# Altium integrated library Linear Technology Power Management Switching Regulator LTC1174-LTC3901.IntLib: 2647 symbols (part 263 of 364)
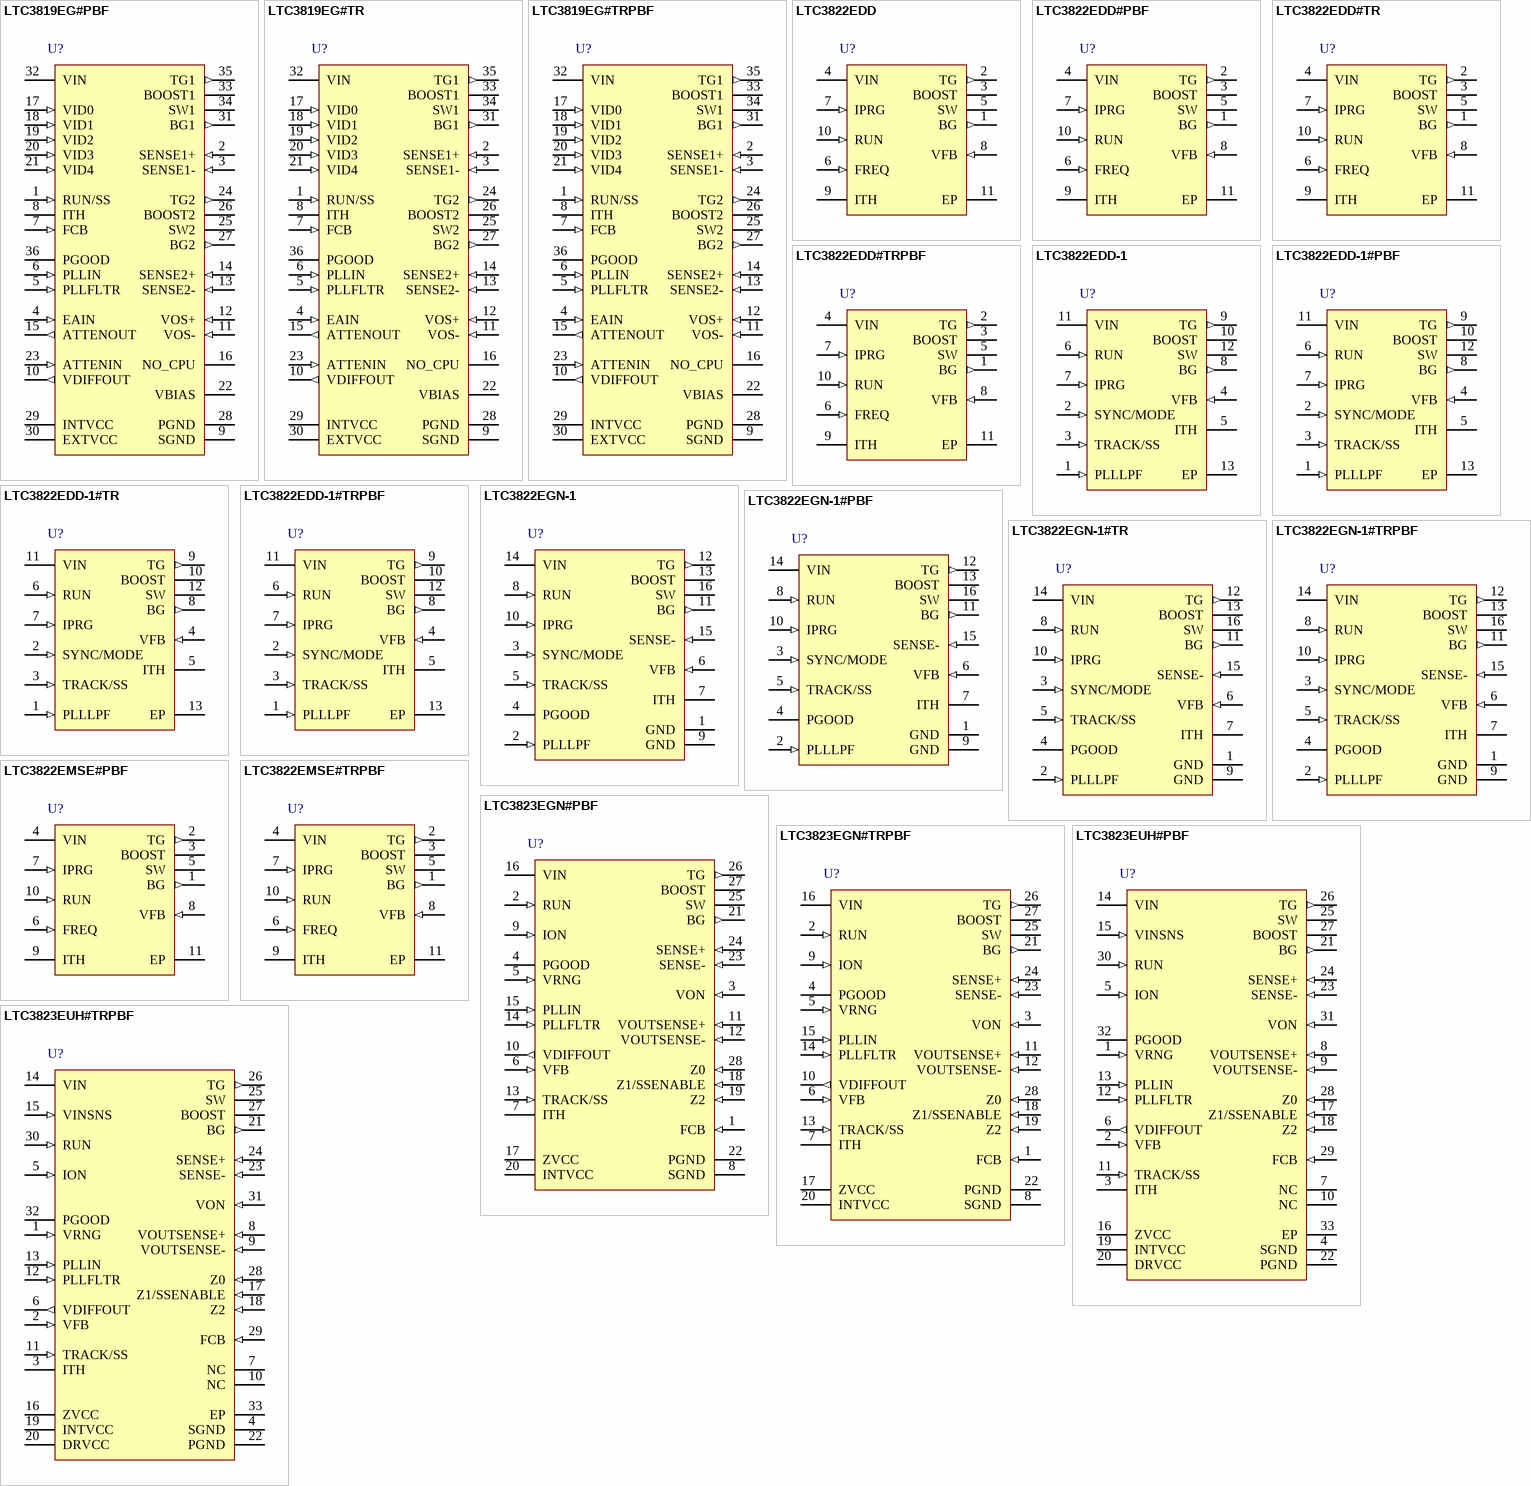
[diagram p251: symbols LTC3819EG#PBF to LTC3823EUH#TRPBF]

## LTC3823EUH#PBF
designator U?
Fast No Rsense Step-Down Synchronous Controller with Differential Output Sensing, Tracking and PLL, 32-pin QFN (UH-32), -40 to 85 degC, Pb-Free; Manufacturer: Linear Technology; PartNumber: LTC3823EUH#PBF; Frequency Sync Range: 100kHz - 1MHz; Number of Outputs: 1; DatasheetVersion: Rev. D; PackageVersion: Rev. D, 06/2010; PackageReference: UH-32; PackageDescription: 32-Pin Plastic QFN, Body 5 x 5 mm, Pitch 0.5 mm; Supplier 1: Digi-Key; Supplier Part Number 1: LTC3823EUH#PBF-ND; Supplier 2: Farnell; Supplier Part Number 2: 2295157; RoHS: TRUE; Mounting Technology: Surface Mount; Code_JEDEC: MO-220; ComponentLink1Description: Manufacturer URL; ComponentLink1URL: http://www.linear.com/; ComponentLink2Description: Datasheet; ComponentLink2URL: http://cds.linear.com/docs/en/datasheet/3823fd.pdf; ComponentLink3Description: Package Specification; ComponentLink3URL: http://cds.linear.com/docs/en/packaging/QFN_32_05-08-1693.pdf
footprint LT-UH-32_N (QFN, 32-Leads, Body 5.1x5.1mm, Pitch 0.5mm, Thermal Pad 3.45X3.45mm, IPC Medium Density)
footprint LT-UH-32_L (QFN, 32-Leads, Body 5.1x5.1mm, Pitch 0.5mm, Thermal Pad 3.45X3.45mm, IPC High Density)
footprint LT-UH-32_M (QFN, 32-Leads, Body 5.1x5.1mm, Pitch 0.5mm, Thermal Pad 3.45X3.45mm, IPC Low Density)
pins: 1 VRNG (in) "Sense Voltage Range Input. The voltage at this pin is ten times the nominal sense voltage at maximum output current and can be set from 0.5V to 2V by a resistive divider from INTVCC. The nominal sense voltage defaults to (See Datasheet)", 2 VFB (in) "Error Ampli?er Feedback Input. This pin connects the error ampli?er input to an external resistive divider from VOUT.", 3 ITH "Current Control Threshold and Error Ampli?er Compensation Point. The current comparator threshold increases with this control voltage. The voltage ranges from 0V to 2.4V with 0.75V corresponding to zero sense voltage (zer(See Datasheet)", 4 SGND (power) "Signal Ground. All small-signal components and compensation components should connect to this ground, which in turn, connects to PGND at one point.", 5 ION (in) "On-Time Current Input. Tie a resistor from this pin to ground to set the one-shot timer current and thereby, set the switching frequency", 6 VDIFFOUT (out) "Output of Remote Sensing Differential Amplifier. Connect this to VFB directly or through a resistive divider", 7 NC "No Connect", 8 VOUTSENSE+ (in) "This is the positive sense pin for the remote sense differential amplifier. Connect this pin to the positive terminal of the output load capacitor", 9 VOUTSENSE- (in) "This is the negative sense pin for the remote sense differential amplifier. Connect this pin to the negative terminal of the output load capacitor.", 10 NC "No Connect", 11 TRACK/SS (in) "Output Voltage Tracking and Soft-Start Input. When the IC is configured to be the master of two outputs, a capacitor to ground at this pin sets the ramp rate for the output voltage. When the IC is configured to be (See Datasheet)", 12 PLLFLTR (in) "The phase-locked loop's lowpass filter is tied to this pin. The voltage at this pin defaults to 1.180V when the IC is not synchronized with an external clock at the PLLIN pin.", 13 PLLIN (in) "External Synchronization Input to Phase Detector. This pin is internally terminated to SGND with a 50k resistor.", 14 VIN (power) "Main Input Supply. Decouple this to PGND with a capacitor (0.1uF to 1uF).", 15 VINSNS (in) "VIN Voltage Sense Input. Normally this pin is tied to VIN. However, in certain applications when the IC is powered from a separate supply, VINSNS is tied to the upper MOSFET supply to sense the VIN voltage. This pin is (See Datasheet)", 16 ZVCC (power) "Post-Package Zener Trim Supply. Under normal conditions this pin should always be connected to INTVCC.", 17 Z1/SSENABLE (in) "Post-Package Zener Trim Control. This pin is a multifunctional pin used in production for post-package trimming and tracking. Ground this pin under normal soft-start operation. Connecting this pin to INTVCC will turn off the (See Datasheet)", 18 Z2 (in) "Post-Package Zener Trim Control. This pin is used in production for post-package trimming. Ground this pin under normal operation.", 19 INTVCC (power) "Internal 5V Regulated Output. The control circuits are powered from this voltage. Decouple this pin to PGND with a minimum of 4.7uF low ESR tantalum or ceramic capacitor.", 20 DRVCC (power) "Driver Voltage Input. Must be connected to INTVCC externally. Do not exceed 7V at this pin. This pin is co-bonded to INTVCC internally in the GN package.", 21 BG (out) "Gate Driver Output. This pin drives the gate of the bottom N-channel MOSFET between ground and INTVCC.", 22 PGND (power) "Power Ground. Connect this pin closely to the source of the bottom N-channel MOSFET, the (-) terminal of CVCC and CIN.", 23 SENSE- (in) "Current Sense Comparator Input. The negative input to the current comparator is used to accurately Kelvin sense the bottom side of the sense resistor or MOSFET.", 24 SENSE+ (in) "Current Sense Comparator Input. The positive input to the current comparator is normally connected to the SW node unless using a sense resistor.", 25 SW "Switch Node. The (-) terminal of the bootstrap capacitor, CB, connects here. This pin swings from a diode drop below ground up to VIN.", 26 TG (out) "Top Gate Drive Output. This pin drives the top N-channel MOSFET with a voltage swing equal to INTVCC, superimposed on the switch node voltage SW.", 27 BOOST "Boosted Floating Driver Supply. The (+) terminal of the bootstrap capacitor, CB, connects here. This pin swings from a diode voltage drop below INTVCC up to VIN + INTVCC.", 28 Z0 (in) "Dead Time Control Input. Applying a DC voltage at this pin will vary the dead time between TG low and BG high transition. Do not force a voltage higher than INTVCC on this pin.", 29 FCB (in) "Forced Continuous Input. Connect this pin to SGND to forced continuous synchronization operation at low load, to INTVCC to enable discontinuous mode operation at low load, or to a resistive divider from a secondary output (See Datasheet)", 30 RUN (in) "Run Control Input. A voltage above 1.5V turns on the IC. Forcing this pin below 1.5V shuts down the device.", 31 VON (in) "On-Time Input. Connecting this pin to the output voltage makes the on-time proportional to VOUT. The comparator input defaults to 0.6V when the pin is grounded and defaults to 4.8V when the pin is tied to INTVCC.", 32 PGOOD (oc) "Power Good Output. Open-drain logic that is pulled to ground when the output voltage is not within +/-11% of the regulation point after the internal 20us power bad mask timer expires.", 33 EP (power) "he exposed pad is signal ground. It must be soldered to PCB ground for electrical contact and for rated thermal performance."

## LTC3823EUH#TRPBF
designator U?
Fast No Rsense Step-Down Synchronous Controller with Differential Output Sensing, Tracking and PLL, 32-pin QFN (UH-32), -40 to 85 degC, Pb-Free, Tape and Reel; Manufacturer: Linear Technology; PartNumber: LTC3823EUH#TRPBF; Frequency Sync Range: 100kHz - 1MHz; Number of Outputs: 1; DatasheetVersion: Rev. D; PackageVersion: Rev. D, 06/2010; PackageReference: UH-32; PackageDescription: 32-Pin Plastic QFN, Body 5 x 5 mm, Pitch 0.5 mm; Supplier 1: Digi-Key; Supplier Part Number 1: LTC3823EUH#TRPBF-ND; Packing: Tape and Reel; RoHS: TRUE; Mounting Technology: Surface Mount; Code_JEDEC: MO-220; ComponentLink1Description: Manufacturer URL; ComponentLink1URL: http://www.linear.com/; ComponentLink2Description: Datasheet; ComponentLink2URL: http://cds.linear.com/docs/en/datasheet/3823fd.pdf; ComponentLink3Description: Package Specification; ComponentLink3URL: http://cds.linear.com/docs/en/packaging/QFN_32_05-08-1693.pdf
footprint LT-UH-32_N (QFN, 32-Leads, Body 5.1x5.1mm, Pitch 0.5mm, Thermal Pad 3.45X3.45mm, IPC Medium Density)
footprint LT-UH-32_L (QFN, 32-Leads, Body 5.1x5.1mm, Pitch 0.5mm, Thermal Pad 3.45X3.45mm, IPC High Density)
footprint LT-UH-32_M (QFN, 32-Leads, Body 5.1x5.1mm, Pitch 0.5mm, Thermal Pad 3.45X3.45mm, IPC Low Density)
pins: 1 VRNG (in) "Sense Voltage Range Input. The voltage at this pin is ten times the nominal sense voltage at maximum output current and can be set from 0.5V to 2V by a resistive divider from INTVCC. The nominal sense voltage defaults to (See Datasheet)", 2 VFB (in) "Error Ampli?er Feedback Input. This pin connects the error ampli?er input to an external resistive divider from VOUT.", 3 ITH "Current Control Threshold and Error Ampli?er Compensation Point. The current comparator threshold increases with this control voltage. The voltage ranges from 0V to 2.4V with 0.75V corresponding to zero sense voltage (zer(See Datasheet)", 4 SGND (power) "Signal Ground. All small-signal components and compensation components should connect to this ground, which in turn, connects to PGND at one point.", 5 ION (in) "On-Time Current Input. Tie a resistor from this pin to ground to set the one-shot timer current and thereby, set the switching frequency", 6 VDIFFOUT (out) "Output of Remote Sensing Differential Amplifier. Connect this to VFB directly or through a resistive divider", 7 NC "No Connect", 8 VOUTSENSE+ (in) "This is the positive sense pin for the remote sense differential amplifier. Connect this pin to the positive terminal of the output load capacitor", 9 VOUTSENSE- (in) "This is the negative sense pin for the remote sense differential amplifier. Connect this pin to the negative terminal of the output load capacitor.", 10 NC "No Connect", 11 TRACK/SS (in) "Output Voltage Tracking and Soft-Start Input. When the IC is configured to be the master of two outputs, a capacitor to ground at this pin sets the ramp rate for the output voltage. When the IC is configured to be (See Datasheet)", 12 PLLFLTR (in) "The phase-locked loop's lowpass filter is tied to this pin. The voltage at this pin defaults to 1.180V when the IC is not synchronized with an external clock at the PLLIN pin.", 13 PLLIN (in) "External Synchronization Input to Phase Detector. This pin is internally terminated to SGND with a 50k resistor.", 14 VIN (power) "Main Input Supply. Decouple this to PGND with a capacitor (0.1uF to 1uF).", 15 VINSNS (in) "VIN Voltage Sense Input. Normally this pin is tied to VIN. However, in certain applications when the IC is powered from a separate supply, VINSNS is tied to the upper MOSFET supply to sense the VIN voltage. This pin is (See Datasheet)", 16 ZVCC (power) "Post-Package Zener Trim Supply. Under normal conditions this pin should always be connected to INTVCC.", 17 Z1/SSENABLE (in) "Post-Package Zener Trim Control. This pin is a multifunctional pin used in production for post-package trimming and tracking. Ground this pin under normal soft-start operation. Connecting this pin to INTVCC will turn off the (See Datasheet)", 18 Z2 (in) "Post-Package Zener Trim Control. This pin is used in production for post-package trimming. Ground this pin under normal operation.", 19 INTVCC (power) "Internal 5V Regulated Output. The control circuits are powered from this voltage. Decouple this pin to PGND with a minimum of 4.7uF low ESR tantalum or ceramic capacitor.", 20 DRVCC (power) "Driver Voltage Input. Must be connected to INTVCC externally. Do not exceed 7V at this pin. This pin is co-bonded to INTVCC internally in the GN package.", 21 BG (out) "Gate Driver Output. This pin drives the gate of the bottom N-channel MOSFET between ground and INTVCC.", 22 PGND (power) "Power Ground. Connect this pin closely to the source of the bottom N-channel MOSFET, the (-) terminal of CVCC and CIN.", 23 SENSE- (in) "Current Sense Comparator Input. The negative input to the current comparator is used to accurately Kelvin sense the bottom side of the sense resistor or MOSFET.", 24 SENSE+ (in) "Current Sense Comparator Input. The positive input to the current comparator is normally connected to the SW node unless using a sense resistor.", 25 SW "Switch Node. The (-) terminal of the bootstrap capacitor, CB, connects here. This pin swings from a diode drop below ground up to VIN.", 26 TG (out) "Top Gate Drive Output. This pin drives the top N-channel MOSFET with a voltage swing equal to INTVCC, superimposed on the switch node voltage SW.", 27 BOOST "Boosted Floating Driver Supply. The (+) terminal of the bootstrap capacitor, CB, connects here. This pin swings from a diode voltage drop below INTVCC up to VIN + INTVCC.", 28 Z0 (in) "Dead Time Control Input. Applying a DC voltage at this pin will vary the dead time between TG low and BG high transition. Do not force a voltage higher than INTVCC on this pin.", 29 FCB (in) "Forced Continuous Input. Connect this pin to SGND to forced continuous synchronization operation at low load, to INTVCC to enable discontinuous mode operation at low load, or to a resistive divider from a secondary output (See Datasheet)", 30 RUN (in) "Run Control Input. A voltage above 1.5V turns on the IC. Forcing this pin below 1.5V shuts down the device.", 31 VON (in) "On-Time Input. Connecting this pin to the output voltage makes the on-time proportional to VOUT. The comparator input defaults to 0.6V when the pin is grounded and defaults to 4.8V when the pin is tied to INTVCC.", 32 PGOOD (oc) "Power Good Output. Open-drain logic that is pulled to ground when the output voltage is not within +/-11% of the regulation point after the internal 20us power bad mask timer expires.", 33 EP (power) "he exposed pad is signal ground. It must be soldered to PCB ground for electrical contact and for rated thermal performance."

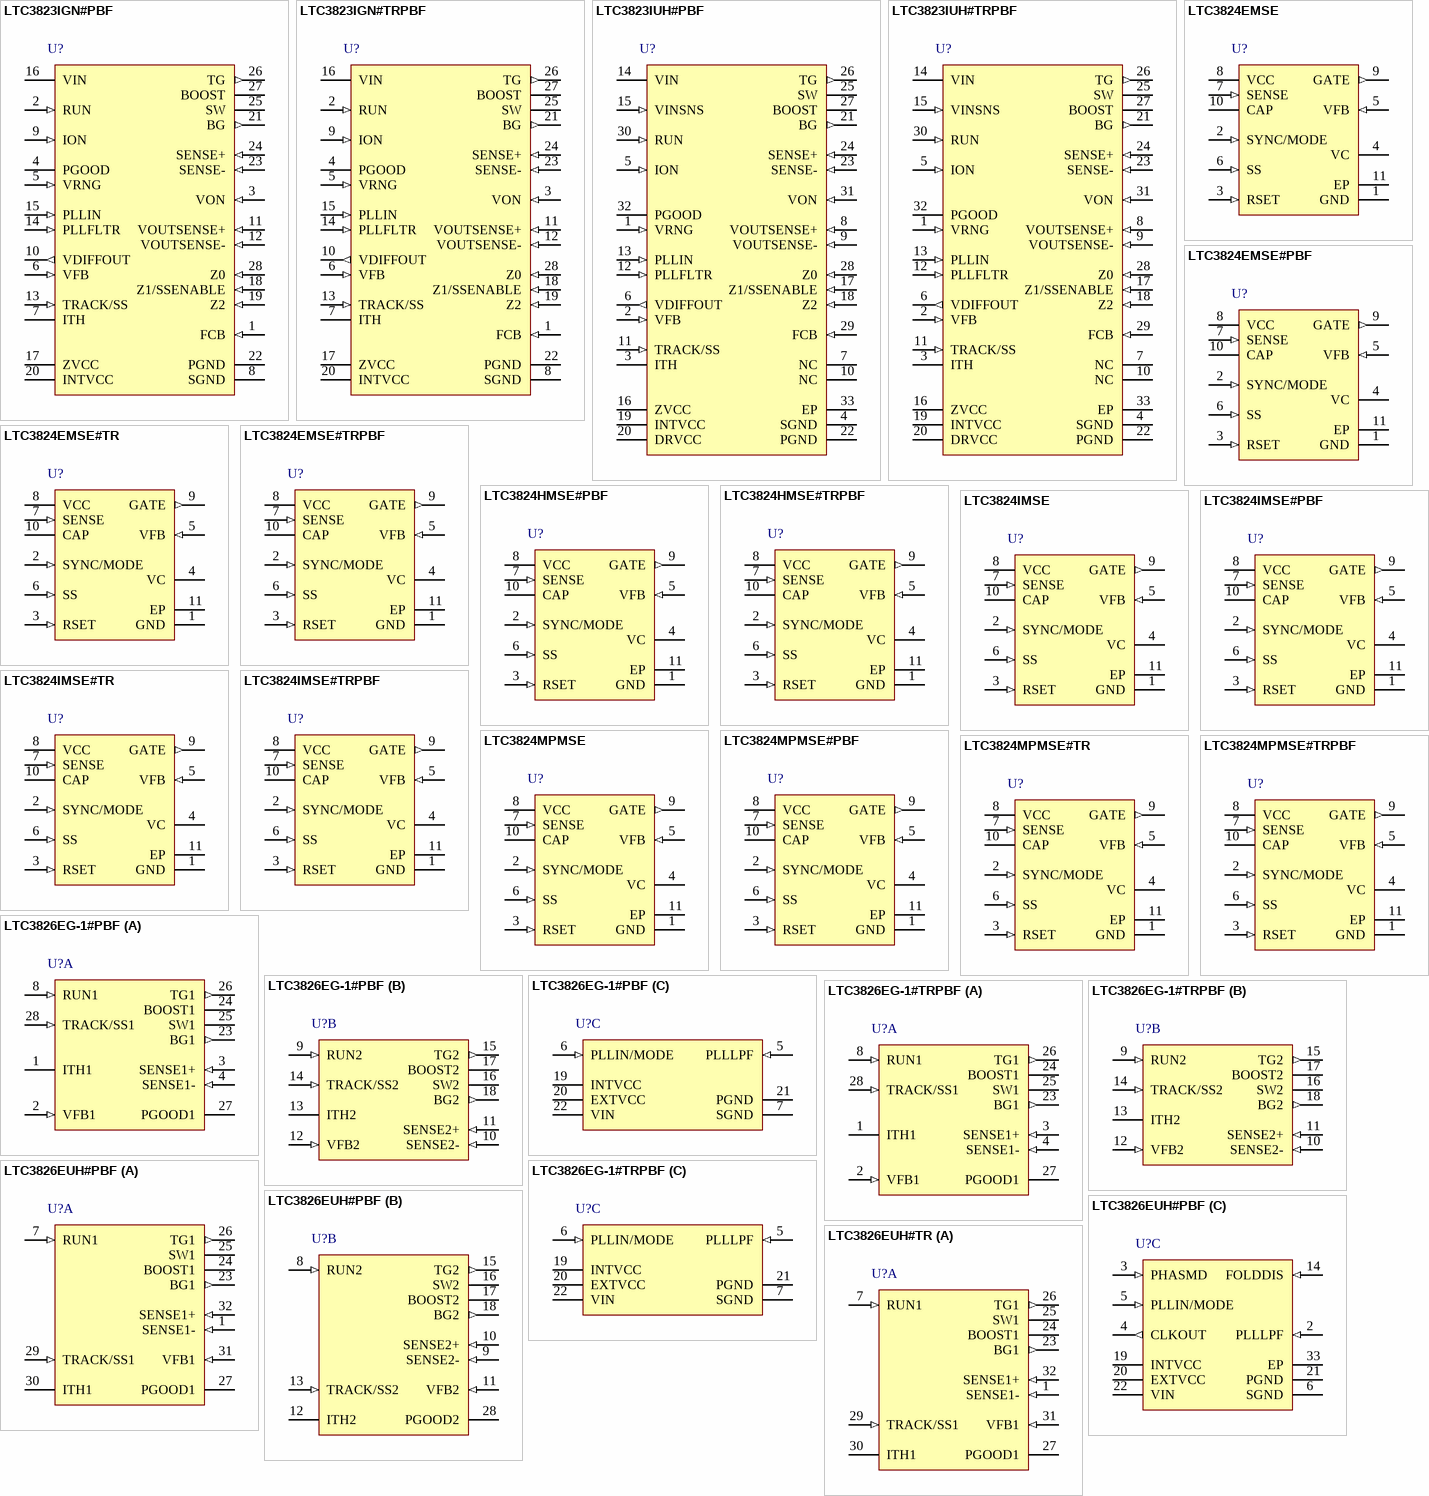
[diagram p81: symbols LTC3823IGN#PBF to LTC3826EUH#TR]

## LTC3823IGN#PBF
designator U?
Fast No Rsense Step-Down Synchronous Controller with Differential Output Sensing, Tracking and PLL, 28-pin SOP (GN-28), -40 to 85 degC, Pb-Free; Manufacturer: Linear Technology; PartNumber: LTC3823IGN#PBF; Frequency Sync Range: 100kHz - 1MHz; Number of Outputs: 1; DatasheetVersion: Rev. D; PackageVersion: Rev. B, 03/2012; PackageReference: GN-28; PackageDescription: 28-Pin Plastic SSOP, Body 9.9 x 3.9 mm, Pitch 0.635 mm; Supplier 1: Digi-Key; Supplier Part Number 1: LTC3823IGN#PBF-ND; Supplier 2: Farnell; Supplier Part Number 2: 1839213; Supplier 3: Newark; Supplier Part Number 3: 52R9866; RoHS: TRUE; Mounting Technology: Surface Mount; ComponentLink1Description: Manufacturer URL; ComponentLink1URL: http://www.linear.com/; ComponentLink2Description: Datasheet; ComponentLink2URL: http://cds.linear.com/docs/en/datasheet/3823fd.pdf; ComponentLink3Description: Package Specification; ComponentLink3URL: http://cds.linear.com/docs/en/packaging/05081641_B_GN28.pdf
footprint LT-GN-28_N (SOP, 28-Leads, Body 9.98x3.98mm, Pitch 0.635mm, IPC Medium Density)
footprint LT-GN-28_L (SOP, 28-Leads, Body 9.98x3.98mm, Pitch 0.635mm, IPC High Density)
footprint LT-GN-28_M (SOP, 28-Leads, Body 9.98x3.98mm, Pitch 0.635mm, IPC Low Density)
pins: 1 FCB (in) "Forced Continuous Input. Connect this pin to SGND to forced continuous synchronization operation at low load, to INTVCC to enable discontinuous mode operation at low load, or to a resistive divider from a secondary output (See Datasheet)", 2 RUN (in) "Run Control Input. A voltage above 1.5V turns on the IC. Forcing this pin below 1.5V shuts down the device.", 3 VON (in) "On-Time Input. Connecting this pin to the output voltage makes the on-time proportional to VOUT. The comparator input defaults to 0.6V when the pin is grounded and defaults to 4.8V when the pin is tied to INTVCC.", 4 PGOOD (oc) "Power Good Output. Open-drain logic that is pulled to ground when the output voltage is not within +/-11% of the regulation point after the internal 20us power bad mask timer expires.", 5 VRNG (in) "Sense Voltage Range Input. The voltage at this pin is ten times the nominal sense voltage at maximum output current and can be set from 0.5V to 2V by a resistive divider from INTVCC. The nominal sense voltage defaults to (See Datasheet)", 6 VFB (in) "Error Ampli?er Feedback Input. This pin connects the error ampli?er input to an external resistive divider from VOUT.", 7 ITH "Current Control Threshold and Error Ampli?er Compensation Point. The current comparator threshold increases with this control voltage. The voltage ranges from 0V to 2.4V with 0.75V corresponding to zero sense voltage (zer(See Datasheet)", 8 SGND (power) "Signal Ground. All small-signal components and compensation components should connect to this ground, which in turn, connects to PGND at one point.", 9 ION (in) "On-Time Current Input. Tie a resistor from this pin to ground to set the one-shot timer current and thereby, set the switching frequency.", 10 VDIFFOUT (out) "Output of Remote Sensing Differential Amplifier. Connect this to VFB directly or through a resistive divider.", 11 VOUTSENSE+ (in) "This is the positive sense pin for the remote sense differential amplifier. Connect this pin to the positive terminal of the output load capacitor", 12 VOUTSENSE- (in) "This is the negative sense pin for the remote sense differential amplifier. Connect this pin to the negative terminal of the output load capacitor.", 13 TRACK/SS (in) "Output Voltage Tracking and Soft-Start Input. When the IC is configured to be the master of two outputs, a capacitor to ground at this pin sets the ramp rate for the output voltage. When the IC is configured to be (See Datasheet)", 14 PLLFLTR (in) "The phase-locked loop's lowpass filter is tied to this pin. The voltage at this pin defaults to 1.180V when the IC is not synchronized with an external clock at the PLLIN pin.", 15 PLLIN (in) "External Synchronization Input to Phase Detector. This pin is internally terminated to SGND with a 50k resistor.", 16 VIN (power) "Main Input Supply. Decouple this to PGND with a capacitor (0.1uF to 1uF).", 17 ZVCC (power) "Post-Package Zener Trim Supply. Under normal conditions this pin should always be connected to INTVCC.", 18 Z1/SSENABLE (in) "Post-Package Zener Trim Control. This pin is a multifunctional pin used in production for post-package trimming and tracking. Ground this pin under normal soft-start operation. Connecting this pin to INTVCC will turn off the (See Datasheet)", 19 Z2 (in) "Post-Package Zener Trim Control. This pin is used in production for post-package trimming. Ground this pin under normal operation.", 20 INTVCC (power) "Internal 5V Regulated Output. The control circuits are powered from this voltage. Decouple this pin to PGND with a minimum of 4.7uF low ESR tantalum or ceramic capacitor.", 21 BG (out) "Gate Driver Output. This pin drives the gate of the bottom N-channel MOSFET between ground and INTVCC.", 22 PGND (power) "Power Ground. Connect this pin closely to the source of the bottom N-channel MOSFET, the (-) terminal of CVCC and CIN", 23 SENSE- (in) "Current Sense Comparator Input. The negative input to the current comparator is used to accurately Kelvin sense the bottom side of the sense resistor or MOSFET.", 24 SENSE+ (in) "Current Sense Comparator Input. The positive input to the current comparator is normally connected to the SW node unless using a sense resistor.", 25 SW "Switch Node. The (-) terminal of the bootstrap capacitor, CB, connects here. This pin swings from a diode drop below ground up to VIN.", 26 TG (out) "Top Gate Drive Output. This pin drives the top N-channel MOSFET with a voltage swing equal to INTVCC, superimposed on the switch node voltage SW.", 27 BOOST "Boosted Floating Driver Supply. The (+) terminal of the bootstrap capacitor, CB, connects here. This pin swings from a diode voltage drop below INTVCC up to VIN + INTVCC.", 28 Z0 (in) "Dead Time Control Input. Applying a DC voltage at this pin will vary the dead time between TG low and BG high transition. Do not force a voltage higher than INTVCC on this pin."

## LTC3823IGN#TRPBF
designator U?
Fast No Rsense Step-Down Synchronous Controller with Differential Output Sensing, Tracking and PLL, 28-pin SOP (GN-28), -40 to 85 degC, Pb-Free, Tape and Reel; Manufacturer: Linear Technology; PartNumber: LTC3823IGN#TRPBF; Frequency Sync Range: 100kHz - 1MHz; Number of Outputs: 1; DatasheetVersion: Rev. D; PackageVersion: Rev. B, 03/2012; PackageReference: GN-28; PackageDescription: 28-Pin Plastic SSOP, Body 9.9 x 3.9 mm, Pitch 0.635 mm; Supplier 1: Digi-Key; Supplier Part Number 1: LTC3823IGN#TRPBF-ND; Packing: Tape and Reel; RoHS: TRUE; Mounting Technology: Surface Mount; ComponentLink1Description: Manufacturer URL; ComponentLink1URL: http://www.linear.com/; ComponentLink2Description: Datasheet; ComponentLink2URL: http://cds.linear.com/docs/en/datasheet/3823fd.pdf; ComponentLink3Description: Package Specification; ComponentLink3URL: http://cds.linear.com/docs/en/packaging/05081641_B_GN28.pdf
footprint LT-GN-28_N (SOP, 28-Leads, Body 9.98x3.98mm, Pitch 0.635mm, IPC Medium Density)
footprint LT-GN-28_L (SOP, 28-Leads, Body 9.98x3.98mm, Pitch 0.635mm, IPC High Density)
footprint LT-GN-28_M (SOP, 28-Leads, Body 9.98x3.98mm, Pitch 0.635mm, IPC Low Density)
pins: 1 FCB (in) "Forced Continuous Input. Connect this pin to SGND to forced continuous synchronization operation at low load, to INTVCC to enable discontinuous mode operation at low load, or to a resistive divider from a secondary output (See Datasheet)", 2 RUN (in) "Run Control Input. A voltage above 1.5V turns on the IC. Forcing this pin below 1.5V shuts down the device.", 3 VON (in) "On-Time Input. Connecting this pin to the output voltage makes the on-time proportional to VOUT. The comparator input defaults to 0.6V when the pin is grounded and defaults to 4.8V when the pin is tied to INTVCC.", 4 PGOOD (oc) "Power Good Output. Open-drain logic that is pulled to ground when the output voltage is not within +/-11% of the regulation point after the internal 20us power bad mask timer expires.", 5 VRNG (in) "Sense Voltage Range Input. The voltage at this pin is ten times the nominal sense voltage at maximum output current and can be set from 0.5V to 2V by a resistive divider from INTVCC. The nominal sense voltage defaults to (See Datasheet)", 6 VFB (in) "Error Ampli?er Feedback Input. This pin connects the error ampli?er input to an external resistive divider from VOUT.", 7 ITH "Current Control Threshold and Error Ampli?er Compensation Point. The current comparator threshold increases with this control voltage. The voltage ranges from 0V to 2.4V with 0.75V corresponding to zero sense voltage (zer(See Datasheet)", 8 SGND (power) "Signal Ground. All small-signal components and compensation components should connect to this ground, which in turn, connects to PGND at one point.", 9 ION (in) "On-Time Current Input. Tie a resistor from this pin to ground to set the one-shot timer current and thereby, set the switching frequency.", 10 VDIFFOUT (out) "Output of Remote Sensing Differential Amplifier. Connect this to VFB directly or through a resistive divider.", 11 VOUTSENSE+ (in) "This is the positive sense pin for the remote sense differential amplifier. Connect this pin to the positive terminal of the output load capacitor", 12 VOUTSENSE- (in) "This is the negative sense pin for the remote sense differential amplifier. Connect this pin to the negative terminal of the output load capacitor.", 13 TRACK/SS (in) "Output Voltage Tracking and Soft-Start Input. When the IC is configured to be the master of two outputs, a capacitor to ground at this pin sets the ramp rate for the output voltage. When the IC is configured to be (See Datasheet)", 14 PLLFLTR (in) "The phase-locked loop's lowpass filter is tied to this pin. The voltage at this pin defaults to 1.180V when the IC is not synchronized with an external clock at the PLLIN pin.", 15 PLLIN (in) "External Synchronization Input to Phase Detector. This pin is internally terminated to SGND with a 50k resistor.", 16 VIN (power) "Main Input Supply. Decouple this to PGND with a capacitor (0.1uF to 1uF).", 17 ZVCC (power) "Post-Package Zener Trim Supply. Under normal conditions this pin should always be connected to INTVCC.", 18 Z1/SSENABLE (in) "Post-Package Zener Trim Control. This pin is a multifunctional pin used in production for post-package trimming and tracking. Ground this pin under normal soft-start operation. Connecting this pin to INTVCC will turn off the (See Datasheet)", 19 Z2 (in) "Post-Package Zener Trim Control. This pin is used in production for post-package trimming. Ground this pin under normal operation.", 20 INTVCC (power) "Internal 5V Regulated Output. The control circuits are powered from this voltage. Decouple this pin to PGND with a minimum of 4.7uF low ESR tantalum or ceramic capacitor.", 21 BG (out) "Gate Driver Output. This pin drives the gate of the bottom N-channel MOSFET between ground and INTVCC.", 22 PGND (power) "Power Ground. Connect this pin closely to the source of the bottom N-channel MOSFET, the (-) terminal of CVCC and CIN", 23 SENSE- (in) "Current Sense Comparator Input. The negative input to the current comparator is used to accurately Kelvin sense the bottom side of the sense resistor or MOSFET.", 24 SENSE+ (in) "Current Sense Comparator Input. The positive input to the current comparator is normally connected to the SW node unless using a sense resistor.", 25 SW "Switch Node. The (-) terminal of the bootstrap capacitor, CB, connects here. This pin swings from a diode drop below ground up to VIN.", 26 TG (out) "Top Gate Drive Output. This pin drives the top N-channel MOSFET with a voltage swing equal to INTVCC, superimposed on the switch node voltage SW.", 27 BOOST "Boosted Floating Driver Supply. The (+) terminal of the bootstrap capacitor, CB, connects here. This pin swings from a diode voltage drop below INTVCC up to VIN + INTVCC.", 28 Z0 (in) "Dead Time Control Input. Applying a DC voltage at this pin will vary the dead time between TG low and BG high transition. Do not force a voltage higher than INTVCC on this pin."

## LTC3823IUH#PBF
designator U?
Fast No Rsense Step-Down Synchronous Controller with Differential Output Sensing, Tracking and PLL, 32-pin QFN (UH-32), -40 to 85 degC, Pb-Free; Manufacturer: Linear Technology; PartNumber: LTC3823IUH#PBF; Frequency Sync Range: 100kHz - 1MHz; Number of Outputs: 1; DatasheetVersion: Rev. D; PackageVersion: Rev. D, 06/2010; PackageReference: UH-32; PackageDescription: 32-Pin Plastic QFN, Body 5 x 5 mm, Pitch 0.5 mm; Supplier 1: Digi-Key; Supplier Part Number 1: LTC3823IUH#PBF-ND; Supplier 2: Farnell; Supplier Part Number 2: 1839215; Supplier 3: Newark; Supplier Part Number 3: 52R9867; RoHS: TRUE; Mounting Technology: Surface Mount; Code_JEDEC: MO-220; ComponentLink1Description: Manufacturer URL; ComponentLink1URL: http://www.linear.com/; ComponentLink2Description: Datasheet; ComponentLink2URL: http://cds.linear.com/docs/en/datasheet/3823fd.pdf; ComponentLink3Description: Package Specification; ComponentLink3URL: http://cds.linear.com/docs/en/packaging/QFN_32_05-08-1693.pdf
footprint LT-UH-32_N (QFN, 32-Leads, Body 5.1x5.1mm, Pitch 0.5mm, Thermal Pad 3.45X3.45mm, IPC Medium Density)
footprint LT-UH-32_L (QFN, 32-Leads, Body 5.1x5.1mm, Pitch 0.5mm, Thermal Pad 3.45X3.45mm, IPC High Density)
footprint LT-UH-32_M (QFN, 32-Leads, Body 5.1x5.1mm, Pitch 0.5mm, Thermal Pad 3.45X3.45mm, IPC Low Density)
pins: 1 VRNG (in) "Sense Voltage Range Input. The voltage at this pin is ten times the nominal sense voltage at maximum output current and can be set from 0.5V to 2V by a resistive divider from INTVCC. The nominal sense voltage defaults to (See Datasheet)", 2 VFB (in) "Error Ampli?er Feedback Input. This pin connects the error ampli?er input to an external resistive divider from VOUT.", 3 ITH "Current Control Threshold and Error Ampli?er Compensation Point. The current comparator threshold increases with this control voltage. The voltage ranges from 0V to 2.4V with 0.75V corresponding to zero sense voltage (zer(See Datasheet)", 4 SGND (power) "Signal Ground. All small-signal components and compensation components should connect to this ground, which in turn, connects to PGND at one point.", 5 ION (in) "On-Time Current Input. Tie a resistor from this pin to ground to set the one-shot timer current and thereby, set the switching frequency", 6 VDIFFOUT (out) "Output of Remote Sensing Differential Amplifier. Connect this to VFB directly or through a resistive divider", 7 NC "No Connect", 8 VOUTSENSE+ (in) "This is the positive sense pin for the remote sense differential amplifier. Connect this pin to the positive terminal of the output load capacitor", 9 VOUTSENSE- (in) "This is the negative sense pin for the remote sense differential amplifier. Connect this pin to the negative terminal of the output load capacitor.", 10 NC "No Connect", 11 TRACK/SS (in) "Output Voltage Tracking and Soft-Start Input. When the IC is configured to be the master of two outputs, a capacitor to ground at this pin sets the ramp rate for the output voltage. When the IC is configured to be (See Datasheet)", 12 PLLFLTR (in) "The phase-locked loop's lowpass filter is tied to this pin. The voltage at this pin defaults to 1.180V when the IC is not synchronized with an external clock at the PLLIN pin.", 13 PLLIN (in) "External Synchronization Input to Phase Detector. This pin is internally terminated to SGND with a 50k resistor.", 14 VIN (power) "Main Input Supply. Decouple this to PGND with a capacitor (0.1uF to 1uF).", 15 VINSNS (in) "VIN Voltage Sense Input. Normally this pin is tied to VIN. However, in certain applications when the IC is powered from a separate supply, VINSNS is tied to the upper MOSFET supply to sense the VIN voltage. This pin is (See Datasheet)", 16 ZVCC (power) "Post-Package Zener Trim Supply. Under normal conditions this pin should always be connected to INTVCC.", 17 Z1/SSENABLE (in) "Post-Package Zener Trim Control. This pin is a multifunctional pin used in production for post-package trimming and tracking. Ground this pin under normal soft-start operation. Connecting this pin to INTVCC will turn off the (See Datasheet)", 18 Z2 (in) "Post-Package Zener Trim Control. This pin is used in production for post-package trimming. Ground this pin under normal operation.", 19 INTVCC (power) "Internal 5V Regulated Output. The control circuits are powered from this voltage. Decouple this pin to PGND with a minimum of 4.7uF low ESR tantalum or ceramic capacitor.", 20 DRVCC (power) "Driver Voltage Input. Must be connected to INTVCC externally. Do not exceed 7V at this pin. This pin is co-bonded to INTVCC internally in the GN package.", 21 BG (out) "Gate Driver Output. This pin drives the gate of the bottom N-channel MOSFET between ground and INTVCC.", 22 PGND (power) "Power Ground. Connect this pin closely to the source of the bottom N-channel MOSFET, the (-) terminal of CVCC and CIN.", 23 SENSE- (in) "Current Sense Comparator Input. The negative input to the current comparator is used to accurately Kelvin sense the bottom side of the sense resistor or MOSFET.", 24 SENSE+ (in) "Current Sense Comparator Input. The positive input to the current comparator is normally connected to the SW node unless using a sense resistor.", 25 SW "Switch Node. The (-) terminal of the bootstrap capacitor, CB, connects here. This pin swings from a diode drop below ground up to VIN.", 26 TG (out) "Top Gate Drive Output. This pin drives the top N-channel MOSFET with a voltage swing equal to INTVCC, superimposed on the switch node voltage SW.", 27 BOOST "Boosted Floating Driver Supply. The (+) terminal of the bootstrap capacitor, CB, connects here. This pin swings from a diode voltage drop below INTVCC up to VIN + INTVCC.", 28 Z0 (in) "Dead Time Control Input. Applying a DC voltage at this pin will vary the dead time between TG low and BG high transition. Do not force a voltage higher than INTVCC on this pin.", 29 FCB (in) "Forced Continuous Input. Connect this pin to SGND to forced continuous synchronization operation at low load, to INTVCC to enable discontinuous mode operation at low load, or to a resistive divider from a secondary output (See Datasheet)", 30 RUN (in) "Run Control Input. A voltage above 1.5V turns on the IC. Forcing this pin below 1.5V shuts down the device.", 31 VON (in) "On-Time Input. Connecting this pin to the output voltage makes the on-time proportional to VOUT. The comparator input defaults to 0.6V when the pin is grounded and defaults to 4.8V when the pin is tied to INTVCC.", 32 PGOOD (oc) "Power Good Output. Open-drain logic that is pulled to ground when the output voltage is not within +/-11% of the regulation point after the internal 20us power bad mask timer expires.", 33 EP (power) "he exposed pad is signal ground. It must be soldered to PCB ground for electrical contact and for rated thermal performance."

## LTC3823IUH#TRPBF
designator U?
Fast No Rsense Step-Down Synchronous Controller with Differential Output Sensing, Tracking and PLL, 32-pin QFN (UH-32), -40 to 85 degC, Pb-Free, Tape and Reel; Manufacturer: Linear Technology; PartNumber: LTC3823IUH#TRPBF; Frequency Sync Range: 100kHz - 1MHz; Number of Outputs: 1; DatasheetVersion: Rev. D; PackageVersion: Rev. D, 06/2010; PackageReference: UH-32; PackageDescription: 32-Pin Plastic QFN, Body 5 x 5 mm, Pitch 0.5 mm; Supplier 1: Digi-Key; Supplier Part Number 1: LTC3823IUH#TRPBF-ND; Packing: Tape and Reel; RoHS: TRUE; Mounting Technology: Surface Mount; Code_JEDEC: MO-220; ComponentLink1Description: Manufacturer URL; ComponentLink1URL: http://www.linear.com/; ComponentLink2Description: Datasheet; ComponentLink2URL: http://cds.linear.com/docs/en/datasheet/3823fd.pdf; ComponentLink3Description: Package Specification; ComponentLink3URL: http://cds.linear.com/docs/en/packaging/QFN_32_05-08-1693.pdf
footprint LT-UH-32_N (QFN, 32-Leads, Body 5.1x5.1mm, Pitch 0.5mm, Thermal Pad 3.45X3.45mm, IPC Medium Density)
footprint LT-UH-32_L (QFN, 32-Leads, Body 5.1x5.1mm, Pitch 0.5mm, Thermal Pad 3.45X3.45mm, IPC High Density)
footprint LT-UH-32_M (QFN, 32-Leads, Body 5.1x5.1mm, Pitch 0.5mm, Thermal Pad 3.45X3.45mm, IPC Low Density)
pins: 1 VRNG (in) "Sense Voltage Range Input. The voltage at this pin is ten times the nominal sense voltage at maximum output current and can be set from 0.5V to 2V by a resistive divider from INTVCC. The nominal sense voltage defaults to (See Datasheet)", 2 VFB (in) "Error Ampli?er Feedback Input. This pin connects the error ampli?er input to an external resistive divider from VOUT.", 3 ITH "Current Control Threshold and Error Ampli?er Compensation Point. The current comparator threshold increases with this control voltage. The voltage ranges from 0V to 2.4V with 0.75V corresponding to zero sense voltage (zer(See Datasheet)", 4 SGND (power) "Signal Ground. All small-signal components and compensation components should connect to this ground, which in turn, connects to PGND at one point.", 5 ION (in) "On-Time Current Input. Tie a resistor from this pin to ground to set the one-shot timer current and thereby, set the switching frequency", 6 VDIFFOUT (out) "Output of Remote Sensing Differential Amplifier. Connect this to VFB directly or through a resistive divider", 7 NC "No Connect", 8 VOUTSENSE+ (in) "This is the positive sense pin for the remote sense differential amplifier. Connect this pin to the positive terminal of the output load capacitor", 9 VOUTSENSE- (in) "This is the negative sense pin for the remote sense differential amplifier. Connect this pin to the negative terminal of the output load capacitor.", 10 NC "No Connect", 11 TRACK/SS (in) "Output Voltage Tracking and Soft-Start Input. When the IC is configured to be the master of two outputs, a capacitor to ground at this pin sets the ramp rate for the output voltage. When the IC is configured to be (See Datasheet)", 12 PLLFLTR (in) "The phase-locked loop's lowpass filter is tied to this pin. The voltage at this pin defaults to 1.180V when the IC is not synchronized with an external clock at the PLLIN pin.", 13 PLLIN (in) "External Synchronization Input to Phase Detector. This pin is internally terminated to SGND with a 50k resistor.", 14 VIN (power) "Main Input Supply. Decouple this to PGND with a capacitor (0.1uF to 1uF).", 15 VINSNS (in) "VIN Voltage Sense Input. Normally this pin is tied to VIN. However, in certain applications when the IC is powered from a separate supply, VINSNS is tied to the upper MOSFET supply to sense the VIN voltage. This pin is (See Datasheet)", 16 ZVCC (power) "Post-Package Zener Trim Supply. Under normal conditions this pin should always be connected to INTVCC.", 17 Z1/SSENABLE (in) "Post-Package Zener Trim Control. This pin is a multifunctional pin used in production for post-package trimming and tracking. Ground this pin under normal soft-start operation. Connecting this pin to INTVCC will turn off the (See Datasheet)", 18 Z2 (in) "Post-Package Zener Trim Control. This pin is used in production for post-package trimming. Ground this pin under normal operation.", 19 INTVCC (power) "Internal 5V Regulated Output. The control circuits are powered from this voltage. Decouple this pin to PGND with a minimum of 4.7uF low ESR tantalum or ceramic capacitor.", 20 DRVCC (power) "Driver Voltage Input. Must be connected to INTVCC externally. Do not exceed 7V at this pin. This pin is co-bonded to INTVCC internally in the GN package.", 21 BG (out) "Gate Driver Output. This pin drives the gate of the bottom N-channel MOSFET between ground and INTVCC.", 22 PGND (power) "Power Ground. Connect this pin closely to the source of the bottom N-channel MOSFET, the (-) terminal of CVCC and CIN.", 23 SENSE- (in) "Current Sense Comparator Input. The negative input to the current comparator is used to accurately Kelvin sense the bottom side of the sense resistor or MOSFET.", 24 SENSE+ (in) "Current Sense Comparator Input. The positive input to the current comparator is normally connected to the SW node unless using a sense resistor.", 25 SW "Switch Node. The (-) terminal of the bootstrap capacitor, CB, connects here. This pin swings from a diode drop below ground up to VIN.", 26 TG (out) "Top Gate Drive Output. This pin drives the top N-channel MOSFET with a voltage swing equal to INTVCC, superimposed on the switch node voltage SW.", 27 BOOST "Boosted Floating Driver Supply. The (+) terminal of the bootstrap capacitor, CB, connects here. This pin swings from a diode voltage drop below INTVCC up to VIN + INTVCC.", 28 Z0 (in) "Dead Time Control Input. Applying a DC voltage at this pin will vary the dead time between TG low and BG high transition. Do not force a voltage higher than INTVCC on this pin.", 29 FCB (in) "Forced Continuous Input. Connect this pin to SGND to forced continuous synchronization operation at low load, to INTVCC to enable discontinuous mode operation at low load, or to a resistive divider from a secondary output (See Datasheet)", 30 RUN (in) "Run Control Input. A voltage above 1.5V turns on the IC. Forcing this pin below 1.5V shuts down the device.", 31 VON (in) "On-Time Input. Connecting this pin to the output voltage makes the on-time proportional to VOUT. The comparator input defaults to 0.6V when the pin is grounded and defaults to 4.8V when the pin is tied to INTVCC.", 32 PGOOD (oc) "Power Good Output. Open-drain logic that is pulled to ground when the output voltage is not within +/-11% of the regulation point after the internal 20us power bad mask timer expires.", 33 EP (power) "he exposed pad is signal ground. It must be soldered to PCB ground for electrical contact and for rated thermal performance."

## LTC3824EMSE
designator U?
High Voltage Step-Down Controller with 40 uA Quiescent Current, 10-pin SOP (MSE-10-EDP), -40 to 125 degC; Manufacturer: Linear Technology; PartNumber: LTC3824EMSE; Frequency Sync Range: 200kHz - 600kHz; Number of Outputs: 1; DatasheetVersion: Rev. G; PackageVersion: Rev. I, 05/2013; PackageReference: MSE-10; PackageDescription: 10-Pin Plastic MSOP, Exposed Die Pad, Body 3 x 3 mm, Pitch 0.5 mm; Supplier 1: Newark; Supplier Part Number 1: 56M8524; RoHS: FALSE; Mounting Technology: Surface Mount; ComponentLink1Description: Manufacturer URL; ComponentLink1URL: http://www.linear.com/; ComponentLink2Description: Datasheet; ComponentLink2URL: http://cds.linear.com/docs/en/datasheet/3824fg.pdf; ComponentLink3Description: Package Specification; ComponentLink3URL: http://cds.linear.com/docs/en/packaging/05081664_I_MSE.pdf
footprint LT-MSE-10-EDP_N (SOP, 10-Leads, Body 3.1x3.1mm, Pitch 0.5mm, Thermal Pad 1.88x1.68mm, IPC Medium Density)
footprint LT-MSE-10-EDP_L (SOP, 10-Leads, Body 3.1x3.1mm, Pitch 0.5mm, Thermal Pad 1.88x1.68mm, IPC High Density)
footprint LT-MSE-10-EDP_M (SOP, 10-Leads, Body 3.1x3.1mm, Pitch 0.5mm, Thermal Pad 1.88x1.68mm, IPC Low Density)
pins: 1 GND (power) "Chip Ground Pin.", 2 SYNC/MODE (in) "Synchronization Input and Burst Mode Operation Enable/Disable. If this pin is left open or pulled higher than 2V, Burst Mode operation will be enabled at light load and the typical threshold of entering Burst Mode operation (See Datasheet)", 3 RSET (in) "A resistor from RSET to ground sets the LTC3824 switching frequency.", 4 VC "The Output of the voltage error amplifier gm and the control signal of the current mode PWM control loop. Switching starts at 0.7V, and higher VC corresponds to higher inductor current. When VC is pulled below 25mV, the (See Datasheet)", 5 VFB (in) "Error Amplifier Inverting Input. A resistor divider to this pin sets the output voltage. When VFB is less than 0.5V, the switching frequency will fold back to 50kHz to reduce the minimum on-cycle.", 6 SS (in) "Soft-Start Pin. A capacitor on this pin sets the output ramp-up rate. The typical time for SS to reach the programmed level is (C • 0.8V)/5uA.", 7 SENSE (in) "Current Sense Input Pin. A sense resistor, RS, from VIN to SENSE sets the current limit to 100mV/RS.", 8 VCC (power) "Chip Power Supply. Power supply bypassing is required.", 9 GATE (out) "Gate Drive for The External P-channel MOSFET. Typical peak drive current is 2.5A and the drive voltage is clamped to 8V when VCC is higher than 9V.", 10 CAP "A Low ESR Capacitor of at Least 0.1uF is required from this pin to VCC to bypass the internal regulator for biasing the gate driver circuitry.", 11 EP (power) "Ground. Must be soldered to PCB with expanded metal trace for rated thermal performance."

## LTC3824EMSE#PBF
designator U?
High Voltage Step-Down Controller with 40 uA Quiescent Current, 10-pin SOP (MSE-10-EDP), -40 to 125 degC, Pb-Free; Manufacturer: Linear Technology; PartNumber: LTC3824EMSE#PBF; Frequency Sync Range: 200kHz - 600kHz; Number of Outputs: 1; DatasheetVersion: Rev. G; PackageVersion: Rev. I, 05/2013; PackageReference: MSE-10; PackageDescription: 10-Pin Plastic MSOP, Exposed Die Pad, Body 3 x 3 mm, Pitch 0.5 mm; Supplier 1: Digi-Key; Supplier Part Number 1: LTC3824EMSE#PBF-ND; Supplier 2: Farnell; Supplier Part Number 2: 1501352; Supplier 3: Newark; Supplier Part Number 3: 56M8525; RoHS: TRUE; Mounting Technology: Surface Mount; ComponentLink1Description: Manufacturer URL; ComponentLink1URL: http://www.linear.com/; ComponentLink2Description: Datasheet; ComponentLink2URL: http://cds.linear.com/docs/en/datasheet/3824fg.pdf; ComponentLink3Description: Package Specification; ComponentLink3URL: http://cds.linear.com/docs/en/packaging/05081664_I_MSE.pdf
footprint LT-MSE-10-EDP_N (SOP, 10-Leads, Body 3.1x3.1mm, Pitch 0.5mm, Thermal Pad 1.88x1.68mm, IPC Medium Density)
footprint LT-MSE-10-EDP_L (SOP, 10-Leads, Body 3.1x3.1mm, Pitch 0.5mm, Thermal Pad 1.88x1.68mm, IPC High Density)
footprint LT-MSE-10-EDP_M (SOP, 10-Leads, Body 3.1x3.1mm, Pitch 0.5mm, Thermal Pad 1.88x1.68mm, IPC Low Density)
pins: 1 GND (power) "Chip Ground Pin.", 2 SYNC/MODE (in) "Synchronization Input and Burst Mode Operation Enable/Disable. If this pin is left open or pulled higher than 2V, Burst Mode operation will be enabled at light load and the typical threshold of entering Burst Mode operation (See Datasheet)", 3 RSET (in) "A resistor from RSET to ground sets the LTC3824 switching frequency.", 4 VC "The Output of the voltage error amplifier gm and the control signal of the current mode PWM control loop. Switching starts at 0.7V, and higher VC corresponds to higher inductor current. When VC is pulled below 25mV, the (See Datasheet)", 5 VFB (in) "Error Amplifier Inverting Input. A resistor divider to this pin sets the output voltage. When VFB is less than 0.5V, the switching frequency will fold back to 50kHz to reduce the minimum on-cycle.", 6 SS (in) "Soft-Start Pin. A capacitor on this pin sets the output ramp-up rate. The typical time for SS to reach the programmed level is (C • 0.8V)/5uA.", 7 SENSE (in) "Current Sense Input Pin. A sense resistor, RS, from VIN to SENSE sets the current limit to 100mV/RS.", 8 VCC (power) "Chip Power Supply. Power supply bypassing is required.", 9 GATE (out) "Gate Drive for The External P-channel MOSFET. Typical peak drive current is 2.5A and the drive voltage is clamped to 8V when VCC is higher than 9V.", 10 CAP "A Low ESR Capacitor of at Least 0.1uF is required from this pin to VCC to bypass the internal regulator for biasing the gate driver circuitry.", 11 EP (power) "Ground. Must be soldered to PCB with expanded metal trace for rated thermal performance."

## LTC3824EMSE#TR
designator U?
High Voltage Step-Down Controller with 40 uA Quiescent Current, 10-pin SOP (MSE-10-EDP), -40 to 125 degC, Tape and Reel; Manufacturer: Linear Technology; PartNumber: LTC3824EMSE#TR; Frequency Sync Range: 200kHz - 600kHz; Number of Outputs: 1; DatasheetVersion: Rev. G; PackageVersion: Rev. I, 05/2013; PackageReference: MSE-10; PackageDescription: 10-Pin Plastic MSOP, Exposed Die Pad, Body 3 x 3 mm, Pitch 0.5 mm; Packing: Tape and Reel; RoHS: FALSE; Mounting Technology: Surface Mount; ComponentLink1Description: Manufacturer URL; ComponentLink1URL: http://www.linear.com/; ComponentLink2Description: Datasheet; ComponentLink2URL: http://cds.linear.com/docs/en/datasheet/3824fg.pdf; ComponentLink3Description: Package Specification; ComponentLink3URL: http://cds.linear.com/docs/en/packaging/05081664_I_MSE.pdf
footprint LT-MSE-10-EDP_N (SOP, 10-Leads, Body 3.1x3.1mm, Pitch 0.5mm, Thermal Pad 1.88x1.68mm, IPC Medium Density)
footprint LT-MSE-10-EDP_L (SOP, 10-Leads, Body 3.1x3.1mm, Pitch 0.5mm, Thermal Pad 1.88x1.68mm, IPC High Density)
footprint LT-MSE-10-EDP_M (SOP, 10-Leads, Body 3.1x3.1mm, Pitch 0.5mm, Thermal Pad 1.88x1.68mm, IPC Low Density)
pins: 1 GND (power) "Chip Ground Pin.", 2 SYNC/MODE (in) "Synchronization Input and Burst Mode Operation Enable/Disable. If this pin is left open or pulled higher than 2V, Burst Mode operation will be enabled at light load and the typical threshold of entering Burst Mode operation (See Datasheet)", 3 RSET (in) "A resistor from RSET to ground sets the LTC3824 switching frequency.", 4 VC "The Output of the voltage error amplifier gm and the control signal of the current mode PWM control loop. Switching starts at 0.7V, and higher VC corresponds to higher inductor current. When VC is pulled below 25mV, the (See Datasheet)", 5 VFB (in) "Error Amplifier Inverting Input. A resistor divider to this pin sets the output voltage. When VFB is less than 0.5V, the switching frequency will fold back to 50kHz to reduce the minimum on-cycle.", 6 SS (in) "Soft-Start Pin. A capacitor on this pin sets the output ramp-up rate. The typical time for SS to reach the programmed level is (C • 0.8V)/5uA.", 7 SENSE (in) "Current Sense Input Pin. A sense resistor, RS, from VIN to SENSE sets the current limit to 100mV/RS.", 8 VCC (power) "Chip Power Supply. Power supply bypassing is required.", 9 GATE (out) "Gate Drive for The External P-channel MOSFET. Typical peak drive current is 2.5A and the drive voltage is clamped to 8V when VCC is higher than 9V.", 10 CAP "A Low ESR Capacitor of at Least 0.1uF is required from this pin to VCC to bypass the internal regulator for biasing the gate driver circuitry.", 11 EP (power) "Ground. Must be soldered to PCB with expanded metal trace for rated thermal performance."